# Altium footprint library SOT89-SOT23.PcbLib: 1 footprints
Each footprint in its own frame and in the unit in brackets; x right, y up, seen from the top. Pads: shape width x height; smd on the part's side, far side on the other; paste and mask are expansions set on the pad; w line width, h text height; cw(c..) or ccw(c..) is an arc to the next point about the centre after c.
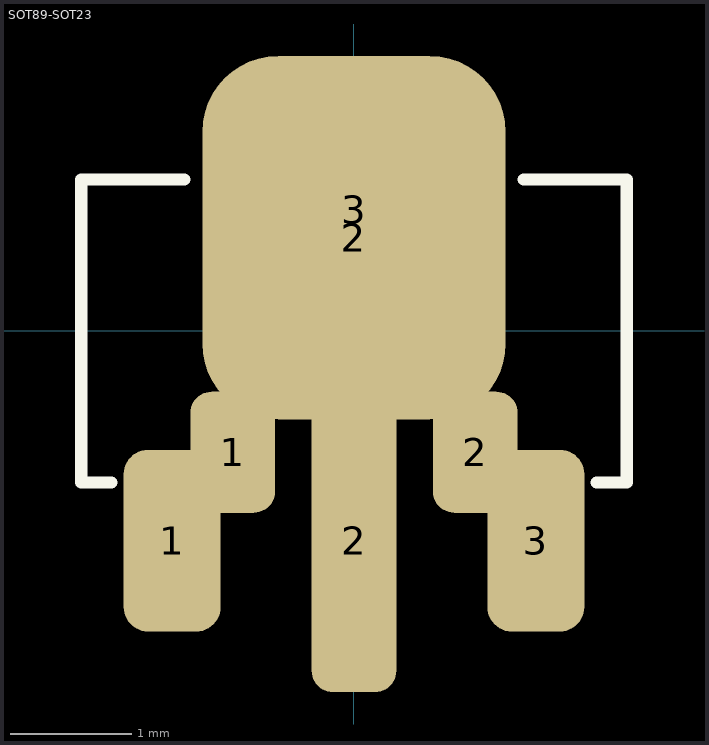
[diagram p0: the footprint, top view; thin cyan lines are the x and y axes]

## SOT89-SOT23 [mm] "SC-62"
pads (7):
  rrect50% 0.8x1.5 smd: 1(-1.5,-1.73) 3(1.5,-1.73)
  rrect50% 0.7x1 smd: 1(-1,-1) 2(1,-1) 3(0,1)
  rrect50% 2.5x3 smd: 2(0,0.77)
  rrect50% 0.7x2.5 smd: 2(0,-1.73)
Top Overlay:
  lines w0.1: -2,-1.25 -2.25,-1.25 -2.25,1.25 -1.4,1.25 ; 1.4,1.25 2.25,1.25 2.25,-1.25 2,-1.25
3D body "SOT89.STEP": height 1.5, standoff 0, extent -2.25,-2.047 2.25,2.048
3D body "SOT23.STEP": height 1.1, standoff 0, extent -1.5,-1.15 1.5,1.15